# EAGLE library part ATMEGA328P (library Arduino Dev Parts)
Atmel ATmega328P
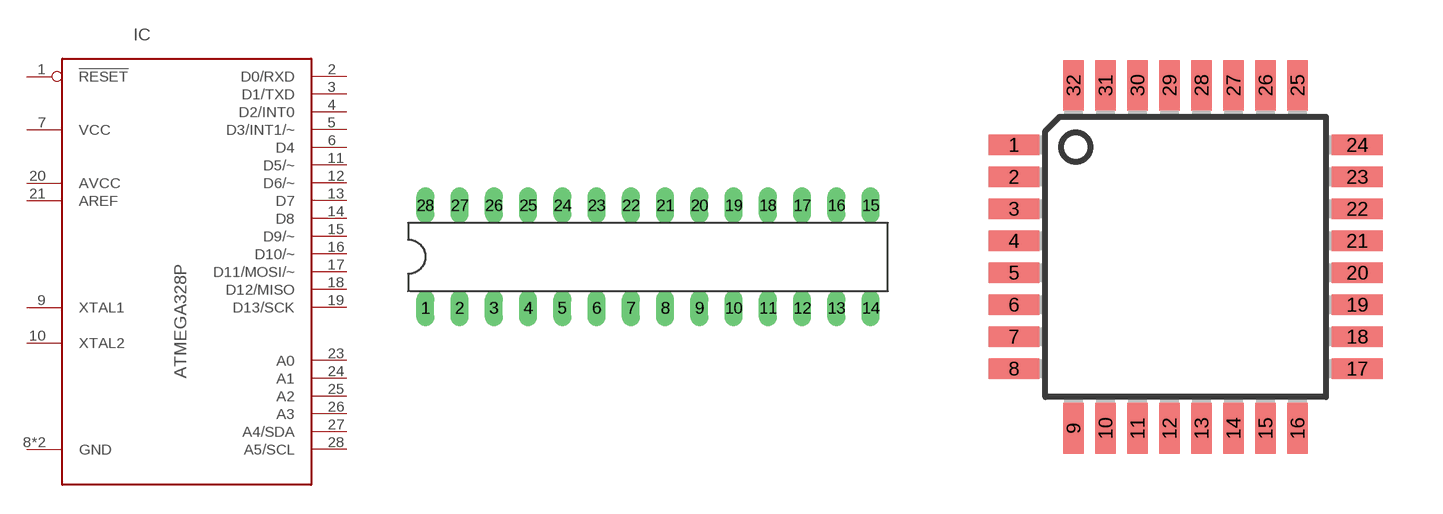
[diagram p0: symbol with the pads of DIL28-3; footprints DIL28-3, TQFP32-08]

Designator prefix IC

## ATMEGA328P-PU (MPN: ATMEGA328P-PU; OC_FARNELL: 1715487; OC_NEWARK: 68T2944)  [DIL28-3]
1  !RESET  in
2  D0/RXD
3  D1/TXD
4  D2/INT0
5  D3/INT1/~
6  D4
7  VCC  pwr
8  GND  in
9  XTAL1  out
10  XTAL2  out
11  D5/~
12  D6/~
13  D7
14  D8
15  D9/~
16  D10/~
17  D11/MOSI/~
18  D12/MISO
19  D13/SCK
20  AVCC  pwr
21  AREF  in
22  GND  in
23  A0
24  A1
25  A2
26  A3
27  A4/SDA
28  A5/SCL

## ATMEGA328P-AU (MPN: ATMEGA328P-AU; OC_FARNELL: 1715486; OC_NEWARK: 68T2935)  [TQFP32-08]
1  D3/INT1/~
2  D4
3  GND  in
4  VCC  pwr
5  GND  in
6  VCC  pwr
7  XTAL1  out
8  XTAL2  out
9  D5/~
10  D6/~
11  D7
12  D8
13  D9/~
14  D10/~
15  D11/MOSI/~
16  D12/MISO
17  D13/SCK
18  AVCC  pwr
20  AREF  in
21  GND  in
23  A0
24  A1
25  A2
26  A3
27  A4/SDA
28  A5/SCL
29  !RESET  in
30  D0/RXD
31  D1/TXD
32  D2/INT0

## Footprint DIL28-3 (pad centres in mm)
Dual In Line package type P
drill 0.813 long: 1 -16.51,-3.81; 2 -13.97,-3.81; 3 -11.43,-3.81; 4 -8.89,-3.81; 5 -6.35,-3.81; 6 -3.81,-3.81; 7 -1.27,-3.81; 8 1.27,-3.81; 9 3.81,-3.81; 10 6.35,-3.81; 11 8.89,-3.81; 12 11.43,-3.81; 13 13.97,-3.81; 14 16.51,-3.81; 15 16.51,3.81; 16 13.97,3.81; 17 11.43,3.81; 18 8.89,3.81; 19 6.35,3.81; 20 3.81,3.81; 21 1.27,3.81; 22 -1.27,3.81; 23 -3.81,3.81; 24 -6.35,3.81; 25 -8.89,3.81; 26 -11.43,3.81; 27 -13.97,3.81; 28 -16.51,3.81

## Footprint TQFP32-08 (pad centres in mm)
Thin Plasic Quad Flat Package Grid 0.8 mm
smd 1.27 x 0.508: 1 -4.293,2.8; 2 -4.293,2; 3 -4.293,1.2; 4 -4.293,0.4; 5 -4.293,-0.4; 6 -4.293,-1.2; 7 -4.293,-2; 8 -4.293,-2.8; 17 4.293,-2.8; 18 4.293,-2; 19 4.293,-1.2; 20 4.293,-0.4; 21 4.293,0.4; 22 4.293,1.2; 23 4.293,2; 24 4.293,2.8
smd 0.508 x 1.27: 9 -2.8,-4.293; 10 -2,-4.293; 11 -1.2,-4.293; 12 -0.4,-4.293; 13 0.4,-4.293; 14 1.2,-4.293; 15 2,-4.293; 16 2.8,-4.293; 25 2.8,4.293; 26 2,4.293; 27 1.2,4.293; 28 0.4,4.293; 29 -0.4,4.293; 30 -1.2,4.293; 31 -2,4.293; 32 -2.8,4.293